# Altium integrated library Condicionamiento de señal.IntLib: 1 symbol
Pins are listed as number, name and electrical type; pins without a type are passive.

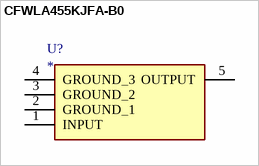
[diagram p0: symbol CFWLA455KJFA-B0]

## CFWLA455KJFA-B0
designator U?
ComponentLink1Description: mouser; ComponentLink1URL: https://www.mouser.es/ProductDetail/Murata-Electronics/CFWLA455KJFA-B0?qs=sGAEpiMZZMvCgIIVhD0CyucWXOGzbSld; datasheet: https://www.mouser.es/datasheet/2/281/CFWLA455KJFA_B0-794147.pdf
footprint CFWLA455KJFAB0
pins: 1 INPUT, 2 GROUND_1, 3 GROUND_2, 4 GROUND_3, 5 OUTPUT